# Altium footprint library rese_cap0402.PcbLib: 37 footprints (part 2 of 3)
Each footprint in its own frame and in the unit in brackets; x right, y up, seen from the top. Pads: shape width x height; smd on the part's side, far side on the other; paste and mask are expansions set on the pad; w line width, h text height; cw(c..) or ccw(c..) is an arc to the next point about the centre after c.
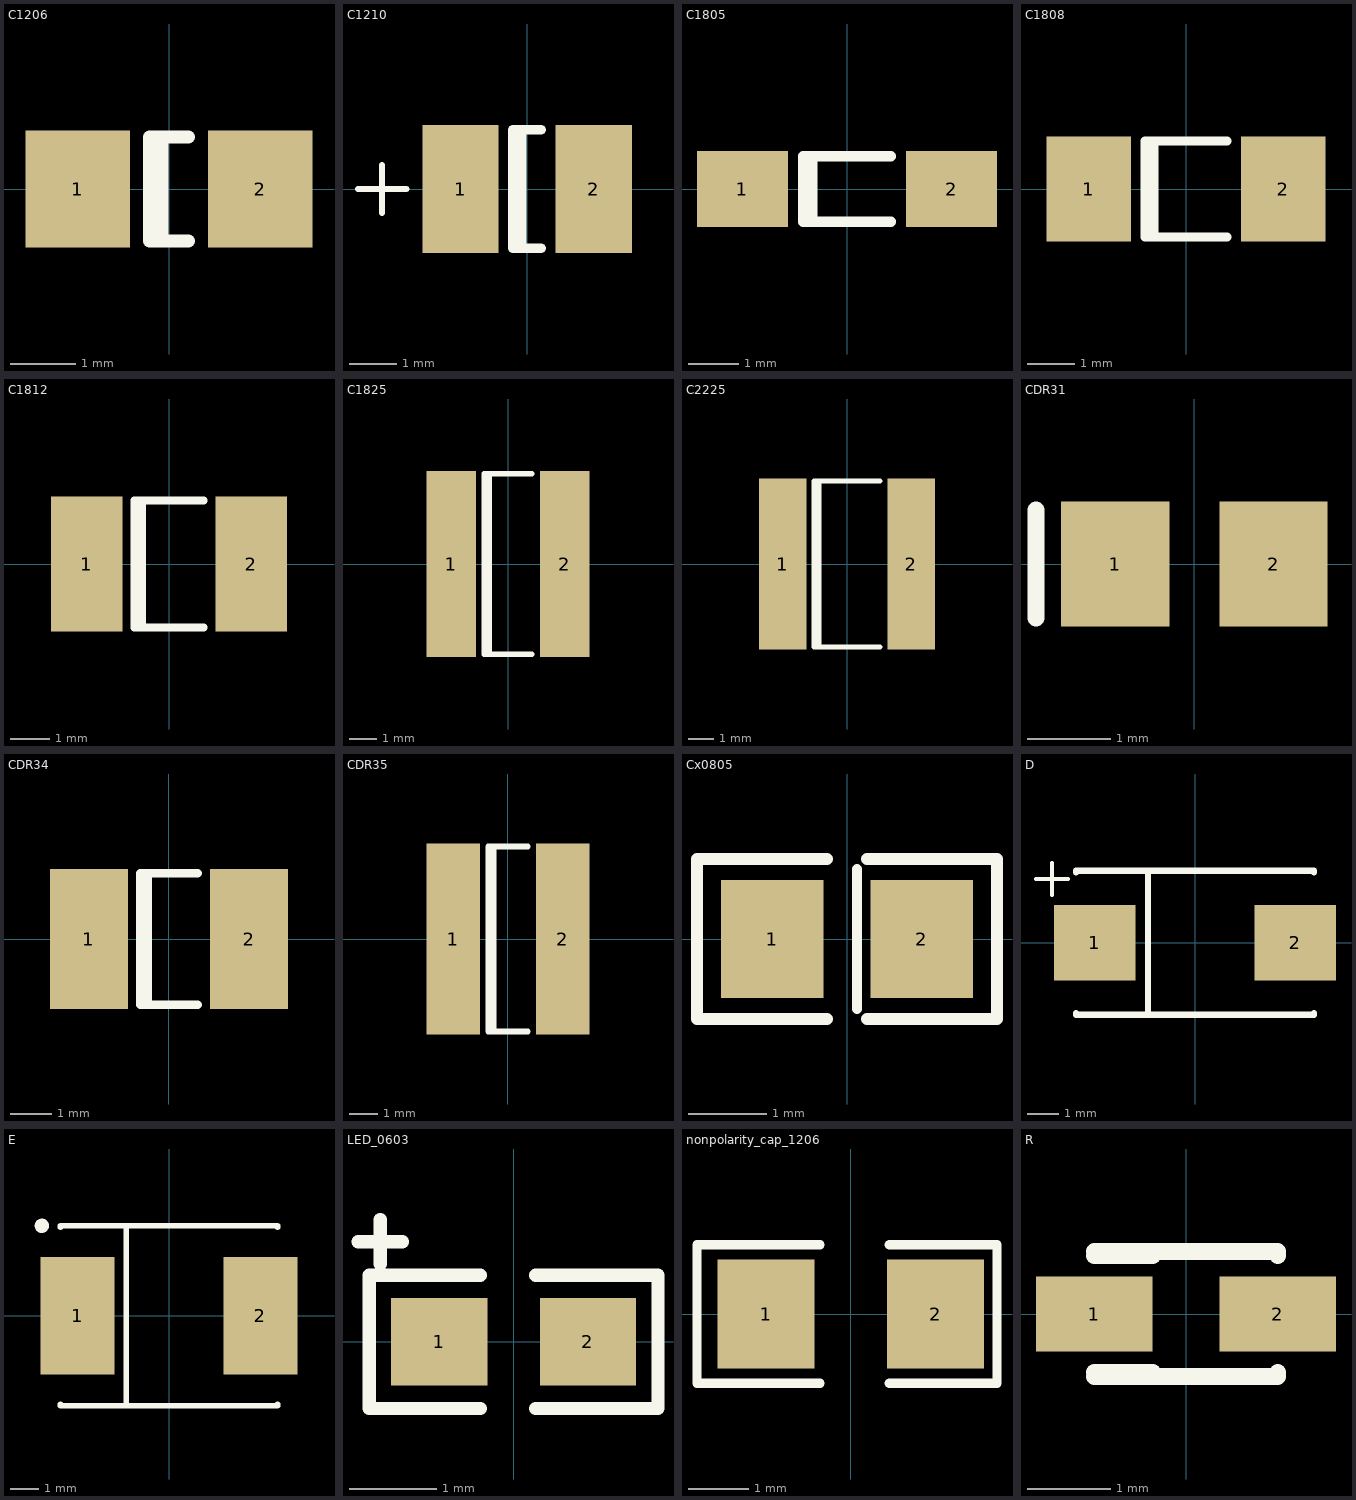
[diagram p1: the footprints below, top view; thin cyan lines are the x and y axes]

## C1206 [mm] "Chip Capacitor; Body 3.2 x 1.6 mm (LxW typ)"
height 1.3
pads (2):
  rect 1.6x1.8 smd: 1(-1.4,0) 2(1.4,0)
Top Overlay:
  lines w0.2: -0.11,-0.8 -0.11,0.8 ; 0.3,-0.8 -0.3,-0.8 -0.3,0.8 0.3,0.8

## C1210 [mm] "Chip Capacitor; Body 3.2 x 2.5 mm (LxW typ)"
height 1.5
pads (2):
  rect 1.6x2.7 smd: 1(-1.4,0) 2(1.4,0)
Top Overlay:
  lines w0.127: -3.556,0 -2.54,0 ; -3.048,-0.508 -3.048,0.508
  lines w0.2: -0.11,-1.25 -0.11,1.25 ; 0.3,-1.25 -0.3,-1.25 -0.3,1.25 0.3,1.25

## C1805 [mm] "Chip Capacitor; Body 4.5 x 1.3 mm (LxW typ)"
height 1.4
pads (2):
  rect 1.8x1.5 smd: 1(-2.075,0) 2(2.075,0)
Top Overlay:
  lines w0.2: -0.685,-0.65 -0.685,0.65 ; 0.875,-0.65 -0.875,-0.65 -0.875,0.65 0.875,0.65

## C1808 [mm] "Chip Capacitor; Body 4.5 x 2.0 mm (LxW typ)"
height 2.03
pads (2):
  rect 1.8x2.25 smd: 1(-2.075,0) 2(2.075,0)
Top Overlay:
  lines w0.2: -0.685,-1.025 -0.685,1.025 ; 0.875,-1.025 -0.875,-1.025 -0.875,1.025 0.875,1.025

## C1812 [mm] "Chip Capacitor; Body 4.5 x 3.2 mm (LxW typ)"
height 2.03
pads (2):
  rect 1.8x3.4 smd: 1(-2.075,0) 2(2.075,0)
Top Overlay:
  lines w0.2: -0.685,-1.6 -0.685,1.6 ; 0.875,-1.6 -0.875,-1.6 -0.875,1.6 0.875,1.6

## C1825 [mm] "Chip Capacitor; Body 4.5 x 6.4 mm (LxW typ)"
height 2.03
pads (2):
  rect 1.8x6.8 smd: 1(-2.075,0) 2(2.075,0)
Top Overlay:
  lines w0.2: -0.685,-3.3 -0.685,3.3 ; 0.875,-3.3 -0.875,-3.3 -0.875,3.3 0.875,3.3

## C2225 [mm] "Chip Capacitor; Body 5.6 x 6.4 mm (LxW typ)"
height 2.03
pads (2):
  rect 1.9x6.8 smd: 1(-2.55,0) 2(2.55,0)
Top Overlay:
  lines w0.2: -1.11,-3.3 -1.11,3.3 ; 1.3,-3.3 -1.3,-3.3 -1.3,3.3 1.3,3.3

## CDR31 [mm] "Chip Capacitor; Body 2.0 x 1.2 mm (LxW typ)"
height 1.3
pads (2):
  rect 1.3x1.5 smd: 1(-0.95,0) 2(0.95,0)
Top Overlay:
  lines w0.2: -1.9,-0.65 -1.9,0.65

## CDR34 [mm] "Chip Capacitor; Body 4.5 x 3.2 mm (LxW typ)"
height 1.5
pads (2):
  rect 1.9x3.4 smd: 1(-1.95,0) 2(1.95,0)
Top Overlay:
  lines w0.2: -0.51,-1.6 -0.51,1.6 ; 0.7,-1.6 -0.7,-1.6 -0.7,1.6 0.7,1.6

## CDR35 [mm] "Chip Capacitor; Body 4.5 x 6.4 mm (LxW typ)"
height 1.5
pads (2):
  rect 1.9x6.8 smd: 1(-1.95,0) 2(1.95,0)
Top Overlay:
  lines w0.2: -0.51,-3.3 -0.51,3.3 ; 0.7,-3.3 -0.7,-3.3 -0.7,3.3 0.7,3.3

## Cx0805 [mm]
pads (2):
  rect 1.3x1.5 smd: 1(-0.95,0) 2(0.95,0)
Top Overlay:
  lines w0.127: 0.127,-0.889 0.127,0.889
  lines w0.152: -0.254,-1.016 -1.905,-1.016 -1.905,1.016 -0.254,1.016 ; 0.254,-1.016 1.905,-1.016 1.905,1.016 0.254,1.016

## D [mm] "Capacitor, SM Tantalum; Body 7.3 x 4.3 mm (LxW typ)"
height 3.1
pads (2):
  rect 2.6x2.4 smd: 1(-3.2,0) 2(3.2,0)
Top Overlay:
  lines w0.127: -5.08,2.032 -4.064,2.032 ; -4.572,1.524 -4.572,2.54
  lines w0.2: -3.8,-2.25 -3.8,-2.3 3.8,-2.3 3.8,-2.25 ; -3.8,2.25 -3.8,2.3 3.8,2.3 3.8,2.25 ; -1.5,-2.3 -1.5,2.3

## E [mm] "Capacitor, SM Tantalum; Body 7.3 x 6.0 mm (LxW typ)"
height 3.8
pads (2):
  rect 2.6x4.1 smd: 1(-3.2,0) 2(3.2,0)
Top Overlay:
  circle w0.25: c-4.45,3.15 r0.125
  lines w0.2: -3.8,-3.1 -3.8,-3.15 3.8,-3.15 3.8,-3.1 ; -3.8,3.1 -3.8,3.15 3.8,3.15 3.8,3.1 ; -1.5,-3.15 -1.5,3.15

## LED_0603 [mm]
pads (2):
  rect 1.1x1 smd: 1(-0.85,0) 2(0.85,0)
Top Overlay:
  lines w0.152: -1.778,1.143 -1.27,1.143 ; -1.524,0.889 -1.524,1.397 ; -0.381,-0.762 -1.651,-0.762 -1.651,0.762 -0.381,0.762 ; 0.254,-0.762 1.651,-0.762 1.651,0.762 0.254,0.762

## nonpolarity_cap_1206 [mm]
pads (2):
  rect 1.6x1.8 smd: 1(-1.4,0) 2(1.4,0)
Top Overlay:
  lines w0.152: -0.508,-1.143 -2.54,-1.143 -2.54,1.143 -0.508,1.143 ; 0.635,-1.143 2.413,-1.143 2.413,-1.016 2.413,1.143 0.635,1.143

## R [mm] "Capacitor, SM Tantalum; Body 2.0 x 1.3 mm (LxW typ)"
height 1.2
pads (2):
  rect 1.4x0.9 smd: 1(-1.1,0) 2(1.1,0)
Top Overlay:
  lines w0.2: -1.1,-0.75 1.1,-0.75 1.1,-0.7 ; -1.1,-0.7 -0.4,-0.7 ; -1.1,0.7 -0.4,0.7 ; -1.1,0.75 1.1,0.75 1.1,0.7